# Altium integrated library STPS2H100AY.IntLib: 3 symbols
Pins are listed as number, name and electrical type; pins without a type are passive.

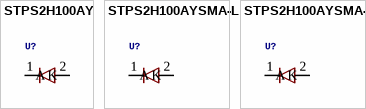
[diagram p0: symbols STPS2H100AY to STPS2H100AYSMA-M]

## STPS2H100AY
designator U?
GateName_1: A; SymbolName_1: STPS2H100A; DeviceSetName: STPS2H100AY; VENDOR: STMicroelectronics; LibraryName: STPS2H100AY; Package: SMA; MANUFACTURER_PART_NUMBER: STPS2H100AY
footprint SMA
pins: 1 K, 2 A

## STPS2H100AYSMA-L
designator U?
GateName_1: A; SymbolName_1: STPS2H100A; DeviceName: SMA-L; DeviceSetName: STPS2H100AY; VENDOR: STMicroelectronics; LibraryName: STPS2H100AY; Package: SMA-L; MANUFACTURER_PART_NUMBER: STPS2H100AY
footprint SMA-L
pins: 1 K, 2 A

## STPS2H100AYSMA-M
designator U?
GateName_1: A; SymbolName_1: STPS2H100A; DeviceName: SMA-M; DeviceSetName: STPS2H100AY; VENDOR: STMicroelectronics; LibraryName: STPS2H100AY; Package: SMA-M; MANUFACTURER_PART_NUMBER: STPS2H100AY
footprint SMA-M
pins: 1 K, 2 A